# Altium footprint library Mechanical.PcbLib: 1 footprints
Each footprint in its own frame and in the unit in brackets; x right, y up, seen from the top. Pads: shape width x height; smd on the part's side, far side on the other; paste and mask are expansions set on the pad; w line width, h text height; cw(c..) or ccw(c..) is an arc to the next point about the centre after c.
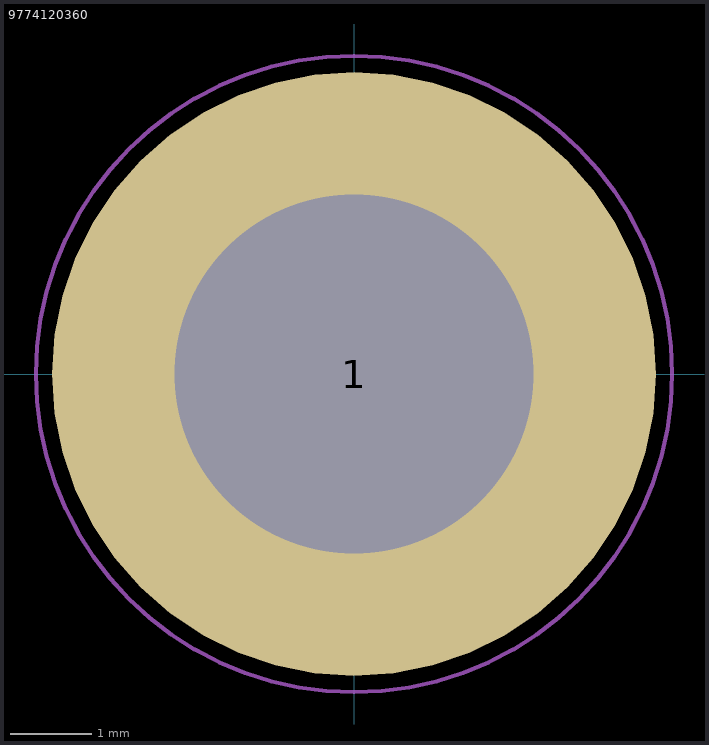
[diagram p0: the footprint, top view; thin cyan lines are the x and y axes]

## 9774120360 [mm] "SMT Steel Spacer with internal Thread M3, height 12mm"
height 12
pads (1):
  round 7.4 / inner round 0 / far side round 0 hole 4.4 unplated: 1(0,0)
Top Paste:
  region: 0.4,3.613 0.4,2.204 0.566,2.167 0.886,2.057 1.186,1.9 1.46,1.699 1.699,1.46 1.9,1.186 2.057,0.886 2.167,0.566 2.204,0.4 3.613,0.4 3.59,0.603 3.5,1.003 3.365,1.389 3.188,1.758 2.97,2.105 2.715,2.425 2.426,2.715 2.106,2.97 1.759,3.188 1.39,3.365 1.003,3.5 0.604,3.59 0.4,3.613
  region: 3.613,-0.4 2.204,-0.4 2.167,-0.566 2.057,-0.886 1.9,-1.186 1.699,-1.46 1.46,-1.699 1.186,-1.9 0.886,-2.057 0.566,-2.167 0.4,-2.204 0.4,-3.613 0.603,-3.59 1.003,-3.5 1.389,-3.365 1.758,-3.188 2.105,-2.97 2.425,-2.715 2.715,-2.426 2.97,-2.106 3.188,-1.759 3.365,-1.39 3.5,-1.003 3.59,-0.604 3.613,-0.4
  region: -0.4,-3.613 -0.4,-2.204 -0.566,-2.167 -0.886,-2.057 -1.186,-1.9 -1.46,-1.699 -1.699,-1.46 -1.9,-1.186 -2.057,-0.886 -2.167,-0.566 -2.204,-0.4 -3.613,-0.4 -3.59,-0.603 -3.5,-1.003 -3.365,-1.389 -3.188,-1.758 -2.97,-2.105 -2.715,-2.425 -2.426,-2.715 -2.106,-2.97 -1.759,-3.188 -1.39,-3.365 -1.003,-3.5 -0.604,-3.59 -0.4,-3.613
  region: -3.613,0.4 -2.204,0.4 -2.167,0.566 -2.057,0.886 -1.9,1.186 -1.699,1.46 -1.46,1.699 -1.186,1.9 -0.886,2.057 -0.566,2.167 -0.4,2.204 -0.4,3.613 -0.603,3.59 -1.003,3.5 -1.389,3.365 -1.758,3.188 -2.105,2.97 -2.425,2.715 -2.715,2.426 -2.97,2.106 -3.188,1.759 -3.365,1.39 -3.5,1.003 -3.59,0.604 -3.613,0.4
Top 3D Body:
  circle w0.1: c0,0 r3
Top Courtyard:
  circle w0.05: c0,0 r3.9
  lines w0.05: -0.5,0 0.5,0 ; 0,-0.5 0,0.5
Top Designator:
  text ".Designator" at -7.498,4.4 h1.5
Top Component Outline:
  circle w0.1: c0,0 r3
3D body "9774120360.stp": height 12, standoff -1.4, extent -3,-3 3,3